# Altium footprint library TQFP-128_20x14x05P.PcbLib: 1 footprints
Each footprint in its own frame and in the unit in brackets; x right, y up, seen from the top. Pads: shape width x height; smd on the part's side, far side on the other; paste and mask are expansions set on the pad; w line width, h text height; cw(c..) or ccw(c..) is an arc to the next point about the centre after c.
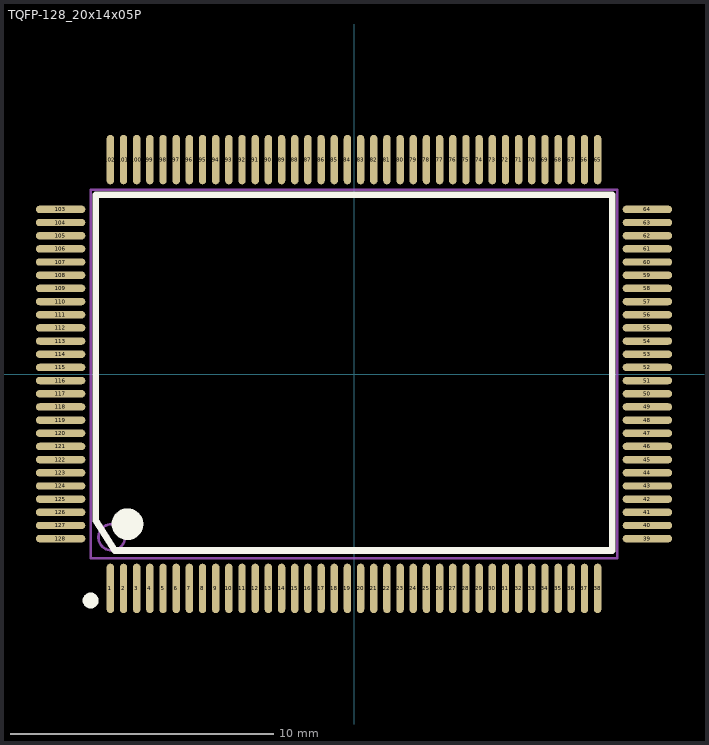
[diagram p0: the footprint, top view; thin cyan lines are the x and y axes]

## TQFP-128_20x14x05P [mm]
pads (128):
  oval 0.28x1.88 smd mask+0.051: 1(-9.25,-8.14) 2(-8.75,-8.14) 3(-8.25,-8.14) 4(-7.75,-8.14) 5(-7.25,-8.14) 6(-6.75,-8.14) 7(-6.25,-8.14) 8(-5.75,-8.14) 9(-5.25,-8.14) 10(-4.75,-8.14) 11(-4.25,-8.14) 12(-3.75,-8.14) 13(-3.25,-8.14) 14(-2.75,-8.14) 15(-2.25,-8.14) 16(-1.75,-8.14) 17(-1.25,-8.14) 18(-0.75,-8.14) 19(-0.25,-8.14) 20(0.25,-8.14) 21(0.75,-8.14) 22(1.25,-8.14) 23(1.75,-8.14) 24(2.25,-8.14) 25(2.75,-8.14) 26(3.25,-8.14) 27(3.75,-8.14) 28(4.25,-8.14) 29(4.75,-8.14) 30(5.25,-8.14) 31(5.75,-8.14) 32(6.25,-8.14) 33(6.75,-8.14) 34(7.25,-8.14) 35(7.75,-8.14) 36(8.25,-8.14) 37(8.75,-8.14) 38(9.25,-8.14) 65(9.25,8.14) 66(8.75,8.14) 67(8.25,8.14) 68(7.75,8.14) 69(7.25,8.14) 70(6.75,8.14) 71(6.25,8.14) 72(5.75,8.14) 73(5.25,8.14) 74(4.75,8.14) 75(4.25,8.14) 76(3.75,8.14) 77(3.25,8.14) 78(2.75,8.14) 79(2.25,8.14) 80(1.75,8.14) 81(1.25,8.14) 82(0.75,8.14) 83(0.25,8.14) 84(-0.25,8.14) 85(-0.75,8.14) 86(-1.25,8.14) 87(-1.75,8.14) 88(-2.25,8.14) 89(-2.75,8.14) 90(-3.25,8.14) 91(-3.75,8.14) 92(-4.25,8.14) 93(-4.75,8.14) 94(-5.25,8.14) 95(-5.75,8.14) 96(-6.25,8.14) 97(-6.75,8.14) 98(-7.25,8.14) 99(-7.75,8.14) 100(-8.25,8.14) 101(-8.75,8.14) 102(-9.25,8.14)
  oval 1.88x0.28 smd mask+0.051: 39(11.14,-6.25) 40(11.14,-5.75) 41(11.14,-5.25) 42(11.14,-4.75) 43(11.14,-4.25) 44(11.14,-3.75) 45(11.14,-3.25) 46(11.14,-2.75) 47(11.14,-2.25) 48(11.14,-1.75) 49(11.14,-1.25) 50(11.14,-0.75) 51(11.14,-0.25) 52(11.14,0.25) 53(11.14,0.75) 54(11.14,1.25) 55(11.14,1.75) 56(11.14,2.25) 57(11.14,2.75) 58(11.14,3.25) 59(11.14,3.75) 60(11.14,4.25) 61(11.14,4.75) 62(11.14,5.25) 63(11.14,5.75) 64(11.14,6.25) 103(-11.14,6.25) 104(-11.14,5.75) 105(-11.14,5.25) 106(-11.14,4.75) 107(-11.14,4.25) 108(-11.14,3.75) 109(-11.14,3.25) 110(-11.14,2.75) 111(-11.14,2.25) 112(-11.14,1.75) 113(-11.14,1.25) 114(-11.14,0.75) 115(-11.14,0.25) 116(-11.14,-0.25) 117(-11.14,-0.75) 118(-11.14,-1.25) 119(-11.14,-1.75) 120(-11.14,-2.25) 121(-11.14,-2.75) 122(-11.14,-3.25) 123(-11.14,-3.75) 124(-11.14,-4.25) 125(-11.14,-4.75) 126(-11.14,-5.25) 127(-11.14,-5.75) 128(-11.14,-6.25)
Top Overlay:
  circle w0.6: c-8.6,-5.7 r0.3
  circle w0.3: c-10,-8.6 r0.15
  lines w0.254: -9.8,-5.56 -9.087,-6.7 9.8,-6.7 9.8,6.8 -9.8,6.8 -9.8,-5.56
Mechanical 13:
  circle w0.1: c-9.2,-6.2 r0.5
  lines w0.1: -10,-7 10,-7 10,7 -10,7 -10,-7